# Altium schematic symbol library Switch.SchLib: 3 symbols
Pins are listed as number, name and electrical type; pins without a type are passive.

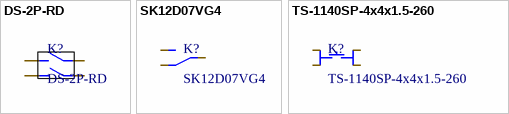
[diagram p0: symbols DS-2P-RD to TS-1140SP-4x4x1.5-260]

## DS-2P-RD
designator K?
Through Hole DIP Switches ROHS; Manufacturer: DORABO; Mfr. Part #: DS-2P-RD; LCSC Part #: C46595746; Package: Through Hole; Link: https://www.lcsc.com/product-detail/C46595735.html?s_z=n_switch%2520DS-2P
pins: 1, 2, 3, 4

## SK12D07VG4
designator K?
500mA SPDT 50V 5,000 Cycles Through Hole Slide Switches ROHS; Manufacturer: SHOU HAN; Switch Height: 8.8mm; Mfr. Part #: SK12D07VG4; LCSC Part #: C393937; Package: Through Hole; Link: https://www.lcsc.com/product-detail/C393937.html?s_z=n_SK12D07VG4
footprint SK12D07VG4
pins: 1, 2, 3

## TS-1140SP-4x4x1.5-260
designator K?
SMD Tactile Switches ROHS; Manufacturer: CAX; Mfr. Part #: TS-1140SP-4x4x1.5-260; LCSC Part #: C49023394; Package: SMD; Link: https://www.lcsc.com/product-detail/C49023394.html?s_z=n_button%25204x4
footprint 4x4x1.5
pins: 1, 2, 3, 4